# Altium schematic symbol library Macro Pad Library.SchLib: 25 symbols
Pins are listed as number, name and electrical type; pins without a type are passive.

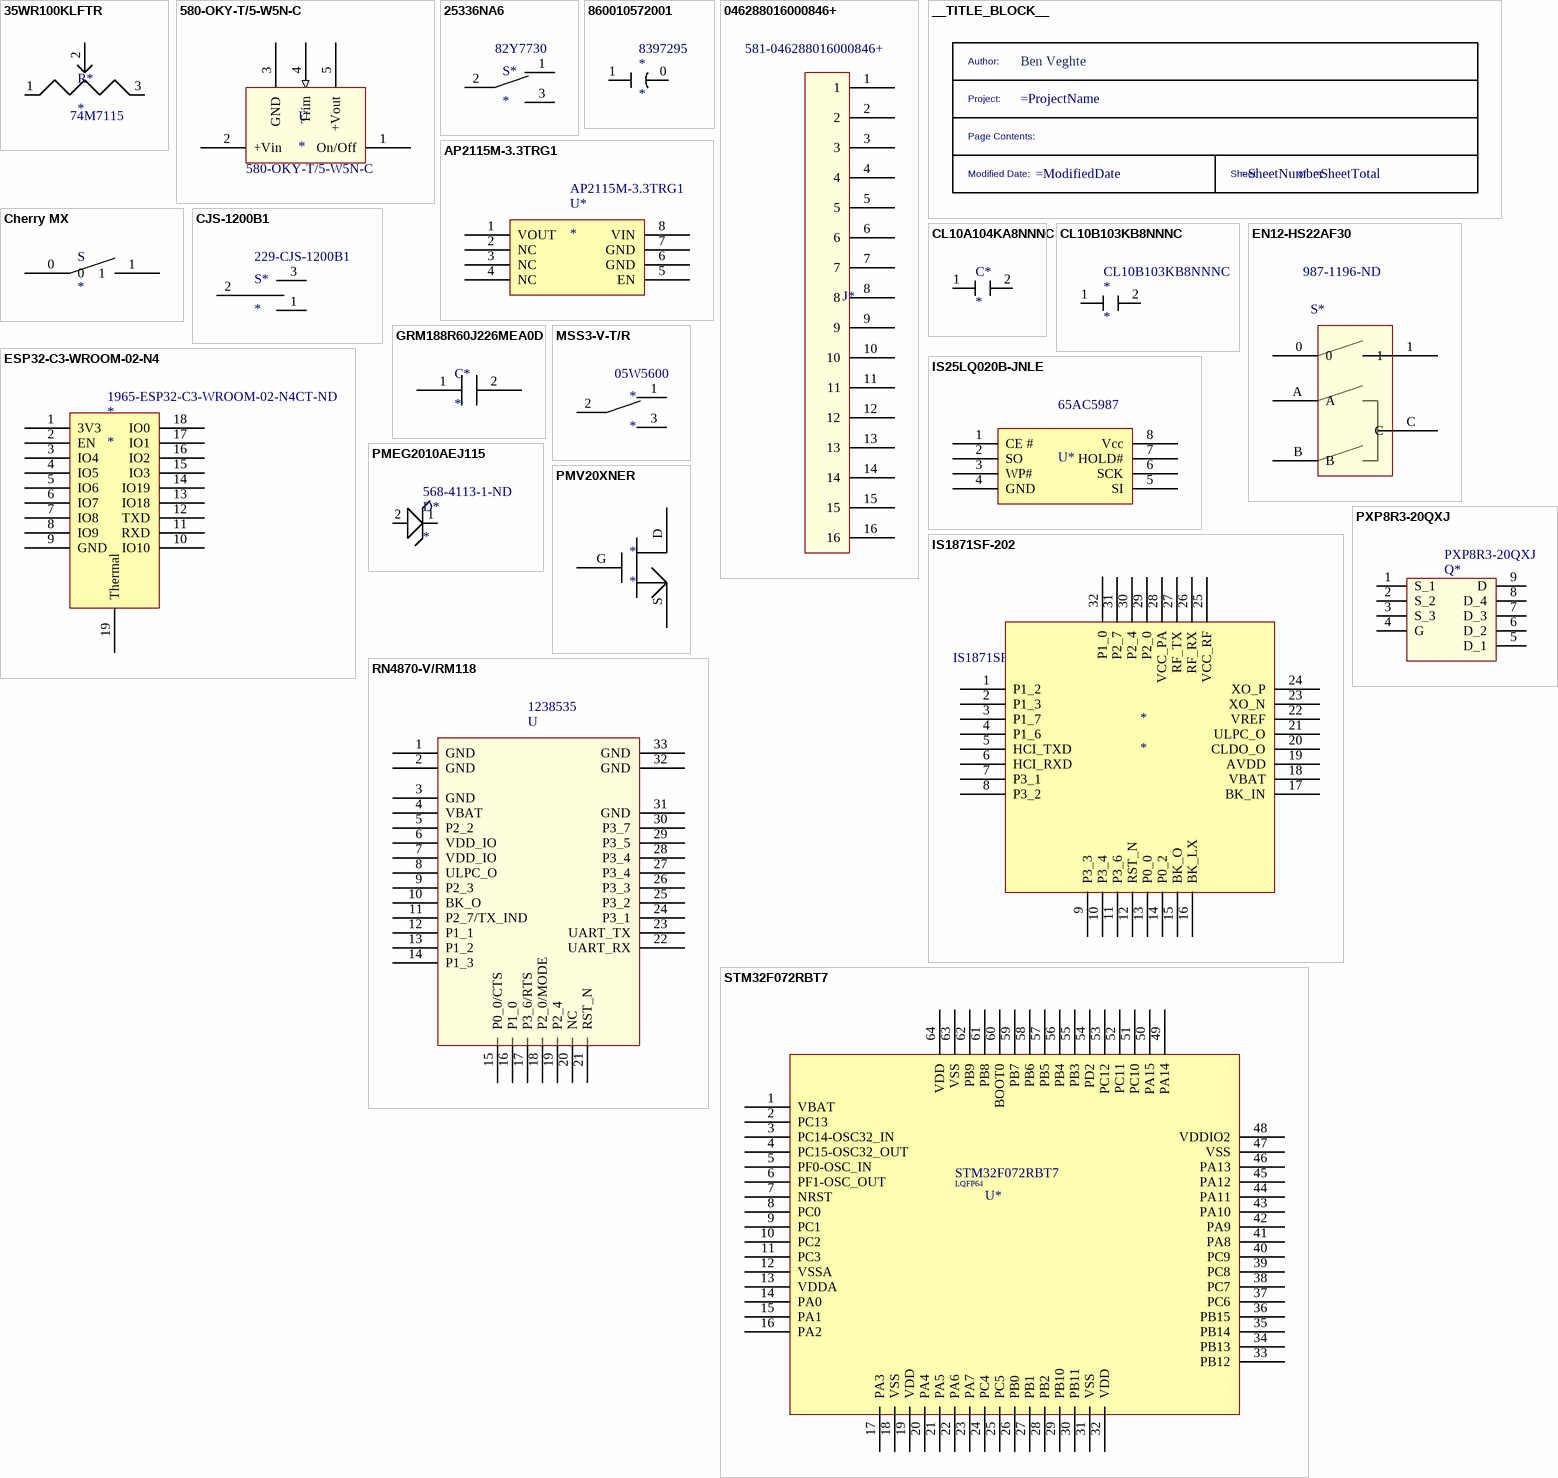
[diagram p0: symbols 35WR100KLFTR to STM32F072RBT7]

## 35WR100KLFTR
designator R*  Supplier Part Number 1: 74M7115
35W Series 3 mm Open Frame 100 kOhm ±25 % Single-Turn Trimming Potentiometer; Manufacturer: TT BI; Manufacturer Part Number: 35WR100KLFTR; Resistance: 100kR; Power Rating: 100mW; Tolerance: 25%; Voltage Rating: 50V; Number of Turns: 1; Insulation Resistance: 100MR; Temperature Coefficient: 250ppm/°C; Supplier 1: Newark; RoHS: Yes; Category: Variable Resistors and Potentiometers; Stock 1: 19940; Pricing 1: 1=0.35800, 10=0.34100, 25=0.32400, 50=0.30100, 100=0.28500, 250=0.27700, 500=0.24900, 1000=0.23800 (USD); Min Operating Temperature: -40°C; Max Operating Temperature: 125°C; Package Quantity: 2000; Packaging: Tape and Reel; Resistor Type: Cermet; Termination: Solder; Voltage Rating (DC): 50V; Type: Potentiometer; Resistance Tolerance: 25%; Series: 37; Width: 1.55mm; REACH SVHC: No SVHC; Lead Free: Lead Free; RoHS Compliant: Yes; ComponentLink1URL: https://datasheet.ciiva.com/22715/4701-22715101.pdf?src-supplier=Element14; ComponentLink1Description: https://datasheet.ciiva.com/22715/4701-22715101.pdf?src-supplier=Element14; ComponentLink2URL: https://datasheet.ciiva.com/7634/4701-7634922.pdf?src-supplier=Element14; ComponentLink2Description: https://datasheet.ciiva.com/7634/4701-7634922.pdf?src-supplier=Element14
footprint 35WR100KLFTR
pins: 1, 2, 3

## 580-OKY-T/5-W5N-C
designator U  Manufacturer Part Number: 580-OKY-T/5-W5N-C
Non Isolated DC/DC Regulator; Supplier 1: RSComponents
footprint 580-OKY-T/5-W5N-C
pins: 1 On/Off, 2 +Vin, 3 GND, 4 Trim (in), 5 +Vout

## 25336NA6
designator S*  Supplier Part Number 1: 82Y7730
Switch Slide ON ON SPDT Side Slide 1A 30VDC 20000Cycles PC Pins Thru-Hole; Manufacturer: APEM; Manufacturer Part Number: 25336NA6; Actuator Material: Nylon,Glass,Polyamide; Contact Current Rating: 4A; Voltage Rating (AC): 125V; Max Voltage Rating (AC): 250V; Voltage Rating (DC): 30V; Illumination Type: Non-Illuminated; Electrical Life: 10000Cycles; Switch Travel: 4mm; Switch Function: On-On; Actuator Type: Standard; Actuator Length: 6mm; Supplier 1: Newark; RoHS: Yes; Category: Slide Switches; Stock 1: 209; Pricing 1: 1=4.37000, 10=3.91000, 25=3.70000, 50=3.57000, 100=3.38000, 250=3.13000 (USD); Mount: Through Hole; Contact Plating: Silver; Contact Material: Silver; Mechanical Life: 20000Cycles; Min Operating Temperature: -40°C; Max Operating Temperature: 85°C; Package Quantity: 100; Throw Configuration: SPDT; Max Current Rating: 1A; Packaging: Bulk; Current Rating: 1A; Max Voltage Rating (DC): 30V; Termination: PC Pins; Orientation: Right Angle; Length: 14.1mm; Depth: 13.5mm; REACH SVHC: No SVHC; RoHS Compliant: Yes; ComponentLink1URL: https://datasheet.ciiva.com/22638/1686052-22638216.pdf?src-supplier=Element14; ComponentLink1Description: https://datasheet.ciiva.com/22638/1686052-22638216.pdf?src-supplier=Element14
footprint 25336NA6
pins: 1, 2 1, 3

## 860010572001
designator *  Supplier Part Number 1: 8397295
Aluminium Electrolytic Capacitor, Wcap-Atg8 Series, 4.7 F, 20%, 35 V, 5 Mm, Radial Leaded Rohs Compliant: Yes; Manufacturer: Wurth Electronics; Manufacturer Part Number: 860010572001; Voltage Rating: 35V; Polarity: Polar; Ripple Current: 44mA; Life (Hours): 2000Hour; Capacitance: 4.7uF; Supplier 1: RSComponents; RoHS: Yes; Category: Aluminum Electrolytic Capacitors; Stock 1: 1; Pricing 1: 50=0.09100, 250=0.06400, 500=0.05100, 1000=0.04900 (USD); Mount: Through Hole; Case/Package: Radial; Min Operating Temperature: -40°C; Max Operating Temperature: 85°C; Package Quantity: 2000; Packaging: Tape and Reel; Tolerance: 20%; Voltage Rating (DC): 35V; Diameter: 5mm; Height: 11mm; Lead Pitch: 0.079inch; Height - Seated (Max): 0.492inch; REACH SVHC: Unknown; RoHS Compliant: Yes; ComponentLink1URL: http://www.farnell.com/datasheets/1879541.pdf?src-supplier=Farnell; ComponentLink1Description: http://www.farnell.com/datasheets/1879541.pdf?src-supplier=Farnell; ComponentLink2URL: http://www.farnell.com/datasheets/1879541.pdf?src-supplier=Element14; ComponentLink2Description: http://www.farnell.com/datasheets/1879541.pdf?src-supplier=Element14; ComponentLink3URL: https://katalog.we-online.de/pbs/datasheet/860010572001.pdf?src-supplier=Digi-Key; ComponentLink3Description: https://katalog.we-online.de/pbs/datasheet/860010572001.pdf?src-supplier=Digi-Key; ComponentLink4URL: http://katalog.we-online.de/pbs/datasheet/860010572001.pdf?src-supplier=Digi-Key; ComponentLink4Description: http://katalog.we-online.de/pbs/datasheet/860010572001.pdf?src-supplier=Digi-Key
footprint 860010572001
pins: 0, 1

## 046288016000846+
designator J*  Supplier Part Number 1: 581-046288016000846+  (hidden comment: *)
Conn FFC/FPC Connector SKT 16 POS 0.5mm Solder RA SMD Automotive T/R; Manufacturer: Kyocera AVX; Manufacturer Part Number: 046288016000846+; Current Rating: 400mA; Voltage Rating: 50V; Number of Positions: 16; Contact Location: Bottom; Gender: Male; Supplier 1: Mouser; RoHS: Yes; Category: FFC / FPC; Stock 1: 2627; Pricing 1: 1=1.38000, 10=1.22000, 50=1.22000, 100=1.05000, 200=0.95100, 500=0.85600, 1000=0.76100, 2000=0.62700, 4000=0.61800, 10000=0.61800 (USD); Mount: Surface Mount; Contact Material: Copper Alloy; Contact Plating: Gold; Housing Material: Plastic; Min Operating Temperature: -40°C; Max Operating Temperature: 105°C; Packaging: Tape and Reel; Number of Rows: 1; Termination: Solder; Orientation: Right Angle; Package Quantity: 1; Number of Contacts: 16; Series: 6288; Pitch: 0.5mm; Radiation Hardening: No; Lead Free: Lead Free; ComponentLink1URL: https://datasheet.ciiva.com/10366/6288-10366323.pdf?src-supplier=Avnet; ComponentLink1Description: https://datasheet.ciiva.com/10366/6288-10366323.pdf?src-supplier=Avnet; ComponentLink2URL: https://datasheet.ciiva.com/18454/70107521-18454565.pdf?src-supplier=Allied+Electronics; ComponentLink2Description: https://datasheet.ciiva.com/18454/70107521-18454565.pdf?src-supplier=Allied+Electronics; ComponentLink3URL: https://datasheet.ciiva.com/671/6288-671255.pdf?src-supplier=Digi-Key; ComponentLink3Description: https://datasheet.ciiva.com/671/6288-671255.pdf?src-supplier=Digi-Key; ComponentLink4URL: https://datasheet.ciiva.com/16327/6288-16327495.pdf?src-supplier=Future+Electronics; ComponentLink4Description: https://datasheet.ciiva.com/16327/6288-16327495.pdf?src-supplier=Future+Electronics; ComponentLink5URL: https://datasheet.ciiva.com/671/6288-671256.pdf?src-supplier=Digi-Key; ComponentLink5Description: https://datasheet.ciiva.com/671/6288-671256.pdf?src-supplier=Digi-Key; ComponentLink6URL: https://datasheet.ciiva.com/671/6288-671257.pdf?src-supplier=Digi-Key; ComponentLink6Description: https://datasheet.ciiva.com/671/6288-671257.pdf?src-supplier=Digi-Key
footprint 046288016000846+
pins: 1, 2, 3, 4, 5, 6, 7, 8, 9, 10, 11, 12, 13, 14, 15, 16

## __TITLE_BLOCK__
designator *  (value not drawn)  (graphical)
text: Author:; Ben Veghte; Project:; Page Contents:; Modified Date:; Sheet; of

## AP2115M-3.3TRG1
designator U*  Supplier Part Number 1: AP2115M-3.3TRG1
LDO Regulator Pos 3.3V 1A 8-Pin SOIC T/R; Manufacturer: Diodes; Dropout Voltage: 450mV; Number of Regulators: 1; Supplier 1: Arrow Electronics; Manufacturer Part Number: AP2115M-3.3TRG1; RoHS: Yes; Category: Voltage Regulators - Linear; Stock 1: 3960; Pricing 1: 1=0.39860, 10=0.32620, 25=0.30340, 100=0.20830, 250=0.19280, 500=0.15840, 1000=0.11820, 3000=0.11710 (USD); Mount: Surface Mount; Case/Package: SOIC; Min Operating Temperature: -40°C; Max Operating Temperature: 85°C; Packaging: Tape and Reel; Output Voltage: 3.3V; Output Current: 1A; RoHS Compliant: Yes; ComponentLink1URL: http://www.mouser.com/ds/2/115/AP2115-464923.pdf?src-supplier=Mouser; ComponentLink1Description: http://www.mouser.com/ds/2/115/AP2115-464923.pdf?src-supplier=Mouser; ComponentLink2URL: https://www.diodes.com/assets/Datasheets/AP2115.pdf?src-supplier=Digi-Key; ComponentLink2Description: https://www.diodes.com/assets/Datasheets/AP2115.pdf?src-supplier=Digi-Key
footprint AP2115M-3.3TRG1
pins: 1 VOUT, 2 NC, 3 NC, 4 NC, 5 EN, 6 GND, 7 GND, 8 VIN

## Cherry MX
designator S
Cherry MX Brown With Fixation Pins
footprint Cherry MX
pins: 0, 1

## CJS-1200B1
designator S*  Supplier Part Number 2: 229-CJS-1200B1
Switch Slide N.O./N.C. SPDT Raised Slide 0.1A 24VDC Gull Wing SMD Bulk; Manufacturer: CUI; Manufacturer Part Number: DS01-254-L-01BE; Max Voltage Rating (DC): 24V; Supplier 1: Mouser; RoHS: Yes; Supplier 2: Mouser; Category: DIP Switches; Stock 2: 600; Pricing 2: 1=0.73000, 10=0.64700, 20=0.63300, 50=0.63300, 100=0.63200, 200=0.56100, 500=0.53500, 1000=0.51700, 2000=0.49800, 10000=0.49800 (USD); Mount: Surface Mount; Case/Package: SMD/SMT; Contact Plating: Gold; Contact Material: Copper Alloy; Min Operating Temperature: -40°C; Max Operating Temperature: 85°C; Throw Configuration: SPDT; Packaging: Bulk; Termination: Gull Wing; Radiation Hardening: No; Lead Free: Lead Free; RoHS Compliant: Yes; ComponentLink1URL: https://www.nidec-copal-electronics.com/e/catalog/switch/cjs.pdf?src-supplier=Digi-Key; ComponentLink1Description: https://www.nidec-copal-electronics.com/e/catalog/switch/cjs.pdf?src-supplier=Digi-Key; ComponentLink2URL: http://www.nidec-copal-electronics.com/e/product/files/file/b1d651d581b7f6382a1a6c96f0c036e447720c59.pdf?src-supplier=Avnet; ComponentLink2Description: http://www.nidec-copal-electronics.com/e/product/files/file/b1d651d581b7f6382a1a6c96f0c036e447720c59.pdf?src-supplier=Avnet
footprint CJS-1200B1
pins: 1, 2, 3

## CL10A104KA8NNNC
designator C*
Cap Ceramic 0.1uF 25V X5R 10% Pad SMD 0603 85°C T/R; Manufacturer: Samsung; Manufacturer Part Number: CL10A104KA8NNNC; Capacitance: 100nF; Supplier 1: Avnet; RoHS: Yes; Category: Ceramic Capacitors; Pricing 1: 40000=0.00344 (USD); Mount: Surface Mount; Case/Package: 0603; Case Code (Metric): 1608; Case Code (Imperial): 0603; Contact Plating: Tin; Min Operating Temperature: -55°C; Max Operating Temperature: 85°C; Package Quantity: 1; Packaging: Tape and Reel; Tolerance: 10%; Voltage Rating: 25V; Series: CL; Dielectric: X5R; Voltage Rating (DC): 25V; Termination: Wraparound; Construction: Flat; Length: 0.063inch; Width: 0.031inch; Thickness: 0.035inch; RoHS Compliant: Yes; Lead Free: Lead Free; ComponentLink1URL: https://datasheet.ciiva.com/25780/cl10a104ka8nnnc-25780966.pdf?src-supplier=Digi-Key; ComponentLink1Description: https://datasheet.ciiva.com/25780/cl10a104ka8nnnc-25780966.pdf?src-supplier=Digi-Key
footprint CL10A104KA8NNNC
pins: 1, 2

## CL10B103KB8NNNC
designator *  Supplier Part Number 1: CL10B103KB8NNNC
CAP CER 10000PF 50V X7R 0603; Manufacturer: Samsung; Capacitance: 10nF; Tolerance: 10%; Supplier 1: Arrow Electronics; Manufacturer Part Number: CL10B103KB8NNNC; RoHS: Yes; Category: Ceramic Capacitors; Stock 1: 4784000; Pricing 1: 4000=0.00480, 8000=0.00470, 12000=0.00440, 40000=0.00350 (USD); Mount: Surface Mount; Case/Package: 0603; Case Code (Metric): 1608; Case Code (Imperial): 0603; Material: Ceramic; Contact Plating: Tin; Min Operating Temperature: -55°C; Max Operating Temperature: 125°C; Dielectric: X7R; Voltage Rating: 50V; Package Quantity: 1; Packaging: Tape and Reel; Voltage: 50V; Voltage Rating (DC): 50V; Series: CL; Construction: Flat; Length: 1.6mm; Width: 0.031inch; Height: 0.8mm; Depth: 0.8mm; Thickness: 0.035inch; Radiation Hardening: No; Lead Free: Lead Free; RoHS Compliant: Yes; ComponentLink1URL: https://datasheet.ciiva.com/15195/getdatasheetpartid-357415-15195721.pdf?src-supplier=Verical; ComponentLink1Description: https://datasheet.ciiva.com/15195/getdatasheetpartid-357415-15195721.pdf?src-supplier=Verical; ComponentLink2URL: https://datasheet.ciiva.com/29198/457455-da-01-en-vs-kondensator-0603-29198644.pdf?src-supplier=Conrad; ComponentLink2Description: https://datasheet.ciiva.com/29198/457455-da-01-en-vs-kondensator-0603-29198644.pdf?src-supplier=Conrad
footprint CL10B103KB8NNNC
pins: 1, 2

## EN12-HS22AF30
designator S*  Supplier Part Number 1: 987-1196-ND  (hidden comment: *)
Rotary Encoder; Supplier 1: Digi-Key
footprint EN12-HS22AF30 (Rotary Encoder)
pins: 0, 1, A, B, C

## ESP32-C3-WROOM-02-N4
designator *  Supplier Part Number 1: 1965-ESP32-C3-WROOM-02-N4CT-ND
Manufacturer: Espressif Systems; Manufacturer Part Number: ESP32-C3-WROOM-02-N4; Supplier 1: Digi-Key; RoHS: No; Stock 1: 225; Pricing 1: 1=1.95000 (USD)
footprint ESP32-C3-WROOM-02-N4
pins: 1 3V3, 2 EN, 3 IO4, 4 IO5, 5 IO6, 6 IO7, 7 IO8, 8 IO9, 9 GND, 10 IO10, 11 RXD, 12 TXD, 13 IO18, 14 IO19, 15 IO3, 16 IO2, 17 IO1, 18 IO0, 19 Thermal

## GRM188R60J226MEA0D
designator C*
0603 22 uF 6.3 V ±20% Tolerance X5R SMT Multilayer Ceramic Capacitor; Manufacturer: Murata; Manufacturer Part Number: GRM188R60J226MEA0D; Capacitance: 22uF; Voltage Rating: 6.3V; Supplier 1: Arrow Electronics; RoHS: Yes; Category: Ceramic Capacitors; Stock 1: 280000; Pricing 1: 4000=0.05660, 8000=0.05370 (USD); Mount: Surface Mount; Case/Package: 0603; Case Code (Metric): 1608; Case Code (Imperial): 0603; Weight: 0.000222oz; Min Operating Temperature: -55°C; Max Operating Temperature: 85°C; Tolerance: 20%; Packaging: Tape and Reel; Package Quantity: 4000; Dielectric: X5R; Termination: SMD/SMT; Voltage Rating (DC): 6.3V; Length: 1.6mm; Width: 0.8mm; Height: 0.8mm; Thickness: 0.039inch; Depth: 0.8mm; REACH SVHC: No SVHC; Lead Free: Lead Free; RoHS Compliant: Yes; ComponentLink1URL: https://datasheet.ciiva.com/29540/partnumbering-e-01-29540442.pdf?src-supplier=Digi-Key; ComponentLink1Description: https://datasheet.ciiva.com/29540/partnumbering-e-01-29540442.pdf?src-supplier=Digi-Key; ComponentLink2URL: https://datasheet.ciiva.com/29540/partnumbering-e-01-29540441.pdf?src-supplier=Digi-Key; ComponentLink2Description: https://datasheet.ciiva.com/29540/partnumbering-e-01-29540441.pdf?src-supplier=Digi-Key; ComponentLink3URL: https://datasheet.ciiva.com/29540/partnumbering-e-01-29540443.pdf?src-supplier=Digi-Key; ComponentLink3Description: https://datasheet.ciiva.com/29540/partnumbering-e-01-29540443.pdf?src-supplier=Digi-Key
footprint GRM188R60J226MEA0D
pins: 1 B, 2 B

## IS25LQ020B-JNLE
designator U*  Supplier Part Number 1: 65AC5987  (hidden comment: *)
NOR Flash Serial (SPI, Dual SPI, Quad SPI) 2.5V/3V/3.3V 2M-bit 256K x 8 8ns 8-Pin SOIC N; Manufacturer: ISSI; Manufacturer Part Number: IS25LQ020B-JNLE; Memory Type: FLASH,NOR; Frequency: 104MHz; Interface: SPI,Serial; Density: 2Mb; Operating Supply Voltage: 3.3V; Address Bus Width: 24b; Page Size: 256B; Min Supply Voltage: 2.3V; Max Supply Voltage: 3.6V; Supplier 1: Newark; RoHS: Yes; Category: Memory; Stock 1: 799; Pricing 1: 1=0.45200, 10=0.41800, 100=0.37600, 500=0.35200 (USD); Mount: Surface Mount; Case/Package: SOIC; Number of Pins: 8; Min Operating Temperature: -40°C; Max Operating Temperature: 105°C; Packaging: Bulk; Access Time: 8ns; RoHS Compliant: Yes; ComponentLink1URL: http://www.mouser.com/ds/2/198/25LQ025B-512B-010B-020B-040B-706473.pdf?src-supplier=Mouser; ComponentLink1Description: http://www.mouser.com/ds/2/198/25LQ025B-512B-010B-020B-040B-706473.pdf?src-supplier=Mouser; ComponentLink2URL: http://www.issi.com/WW/pdf/25LQ025B-512B-010B-020B-040B.pdf?src-supplier=Avnet; ComponentLink2Description: http://www.issi.com/WW/pdf/25LQ025B-512B-010B-020B-040B.pdf?src-supplier=Avnet; ComponentLink3URL: http://www.issi.com/WW/pdf/25LQ025B-512B-010B-020B-040B.pdf?src-supplier=Digi-Key; ComponentLink3Description: http://www.issi.com/WW/pdf/25LQ025B-512B-010B-020B-040B.pdf?src-supplier=Digi-Key; ComponentLink4URL: http://www.farnell.com/datasheets/2625712.pdf?src-supplier=Newark; ComponentLink4Description: http://www.farnell.com/datasheets/2625712.pdf?src-supplier=Newark
footprint IS25LQ020B-JNLE
pins: 1 CE #, 2 SO, 3 WP#, 4 GND, 5 SI, 6 SCK, 7 HOLD#, 8 Vcc

## IS1871SF-202
designator *  Supplier Part Number 1: IS1871SF-202
Bluetooth BLE5 IC, 4X4MM, Industrial Temp 32 VQFN 4X4X0.9MM T/r Rohs Compliant: Yes; Manufacturer: Microchip; Supplier 1: Arrow Electronics; Manufacturer Part Number: IS1871SF-202; RoHS: Yes; Category: RF Receivers, Transceivers; Stock 1: 5000; Pricing 1: 1=2.02400, 10=2.00400, 25=1.87900, 100=1.86700, 250=1.85600, 500=1.84400, 1000=1.83200, 3000=1.82100 (USD); RoHS Compliant: No
pins: 1 P1_2, 2 P1_3, 3 P1_7, 4 P1_6, 5 HCI_TXD, 6 HCI_RXD, 7 P3_1, 8 P3_2, 9 P3_3, 10 P3_4, 11 P3_6, 12 RST_N, 13 P0_0, 14 P0_2, 15 BK_O, 16 BK_LX, 17 BK_IN, 18 VBAT, 19 AVDD, 20 CLDO_O, 21 ULPC_O, 22 VREF, 23 XO_N, 24 XO_P, 25 VCC_RF, 26 RF_RX, 27 RF_TX, 28 VCC_PA, 29 P2_0, 30 P2_4, 31 P2_7, 32 P1_0

## MSS3-V-T/R
designator *  Supplier Part Number 1: 05W5600
Switch Slide SP3T Side Slide 0.025A 24VDC 10000Cycles Solder SMD T/R; Manufacturer: Multicomp; Manufacturer Part Number: MSS3-V-T/R; Operating Force: 150gf; Contact Resistance: 100mR; Throw Configuration: SPDT; Supplier 1: Newark; RoHS: Yes; Category: Uncategorized; Pricing 1: 1=0.74200, 25=0.64500, 50=0.57100, 100=0.53000 (USD); Case/Package: 300; Min Operating Temperature: -20°C; Max Operating Temperature: 70°C; Orientation: Right Angle; REACH SVHC: No SVHC; ComponentLink1URL: https://datasheet.ciiva.com/1699/1599440-1699654.pdf?src-supplier=Newark; ComponentLink1Description: https://datasheet.ciiva.com/1699/1599440-1699654.pdf?src-supplier=Newark; ComponentLink2URL: https://datasheet.ciiva.com/1532/1599440-1532300.pdf?src-supplier=Element14; ComponentLink2Description: https://datasheet.ciiva.com/1532/1599440-1532300.pdf?src-supplier=Element14
footprint MSS3-V-T/R
pins: 1, 2 1, 3

## PMEG2010AEJ115
designator D*  Supplier Part Number 1: 568-4113-1-ND
NXP         PMEG2010AEJ,115             Schottky Rectifier, Single, 20 V, 1 A, SOD-323F, 2 Pins, 550 mV; Manufacturer: NXP Semiconductors; Manufacturer Part Number: PMEG2010AEJ115; Max Surge Current: 10A; Forward Current: 1A; Max Reverse Current: 70uA; Forward Voltage: 550mV; Max Repetitive Reverse Voltage (Vrrm): 20V; Supplier 1: Digi-Key; RoHS: Yes; Category: Schottky Diodes; Mount: Surface Mount; Number of Pins: 2; Weight: 0.01lb; Min Operating Temperature: -65°C; Max Operating Temperature: 150°C; Package Quantity: 1; Packaging: Tape and Reel; Max Reverse Leakage Current: 70uA; Average Rectified Current: 1A; Peak Non-Repetitive Surge Current: 10A; Max Forward Surge Current (Ifsm): 10A; Termination: SMD/SMT; Element Configuration: Single; Max Reverse Voltage (DC): 20V; Length: 0.25inch; Width: 0.25inch; Height: 0.25inch; Radiation Hardening: No; REACH SVHC: No SVHC; Lead Free: Lead Free; ComponentLink1URL: https://datasheet.ciiva.com/28648/666247-28648370.pdf?src-supplier=Element14; ComponentLink1Description: https://datasheet.ciiva.com/28648/666247-28648370.pdf?src-supplier=Element14; ComponentLink2URL: https://datasheet.ciiva.com/913/pmeg2010aej-913523.pdf?src-supplier=Digi-Key; ComponentLink2Description: https://datasheet.ciiva.com/913/pmeg2010aej-913523.pdf?src-supplier=Digi-Key; ComponentLink3URL: https://datasheet.ciiva.com/4714/pmeg2010aej-117858-4714480.pdf?src-supplier=Mouser; ComponentLink3Description: https://datasheet.ciiva.com/4714/pmeg2010aej-117858-4714480.pdf?src-supplier=Mouser; ComponentLink4URL: https://datasheet.ciiva.com/7965/666247-7965049.pdf?src-supplier=Element14; ComponentLink4Description: https://datasheet.ciiva.com/7965/666247-7965049.pdf?src-supplier=Element14; ComponentLink5URL: https://datasheet.ciiva.com/31423/666247-31423031.pdf?src-supplier=Farnell; ComponentLink5Description: https://datasheet.ciiva.com/31423/666247-31423031.pdf?src-supplier=Farnell; ComponentLink6URL: https://datasheet.ciiva.com/913/pmeg2010aej-913524.pdf?src-supplier=Digi-Key; ComponentLink6Description: https://datasheet.ciiva.com/913/pmeg2010aej-913524.pdf?src-supplier=Digi-Key; ComponentLink7URL: https://datasheet.ciiva.com/913/pmeg2010aej-913525.pdf?src-supplier=Digi-Key; ComponentLink7Description: https://datasheet.ciiva.com/913/pmeg2010aej-913525.pdf?src-supplier=Digi-Key
footprint PMEG2010AEJ
pins: 1 34, 2 35

## PMV20XNER
designator *
footprint PMV20XNER
pins: D, G B, S

## PXP8R3-20QXJ
designator Q*  Supplier Part Number 1: PXP8R3-20QXJ  (hidden comment: *)
PXP8R3-20QX - 20 V, P-channel Trench MOSFET; Manufacturer: Nexperia; Supplier 1: Arrow Electronics; Manufacturer Part Number: PXP8R3-20QXJ; RoHS: No; Category: Uncategorized; Stock 1: 1756; Pricing 1: 1=0.70830, 10=0.62250, 25=0.61630, 50=0.61020, 100=0.46530, 250=0.46060, 500=0.34520, 1000=0.29630 (USD)
footprint PXP8R3-20QXJ
pins: 1 S_1, 2 S_2, 3 S_3, 4 G, 5 D_1, 6 D_2, 7 D_3, 8 D_4, 9 D

## RN4870-V/RM118
designator U  Supplier Part Number 1: 1238535  (hidden comment: *)
RN4870 Series 3.3 V 2.48 GHz Class 2 Bluetooth® 4.2 Shielded Low Energy Module; Manufacturer: Microchip; Manufacturer Part Number: RN4870-V/RM118; Min Supply Voltage: 1.9V; Max Supply Voltage: 3.6V; Supplier 1: RSComponents; RoHS: No; Category: RF Receivers, Transceivers; Stock 1: 78; Pricing 1: 1=6.86000, 25=6.65000, 100=6.41000 (GBP); Case/Package: Module; Min Operating Temperature: -20°C; Max Operating Temperature: 70°C; REACH SVHC: No SVHC; Lead Free: Lead Free; RoHS Compliant: No; ComponentLink1URL: http://www.farnell.com/datasheets/2151205.pdf?src-supplier=Farnell; ComponentLink1Description: http://www.farnell.com/datasheets/2151205.pdf?src-supplier=Farnell; ComponentLink2URL: http://www.farnell.com/datasheets/2151205.pdf?src-supplier=Element14; ComponentLink2Description: http://www.farnell.com/datasheets/2151205.pdf?src-supplier=Element14; ComponentLink3URL: http://www.microchip.com/mymicrochip/filehandler.aspx?ddocname=en586027&src-supplier=Digi-Key; ComponentLink3Description: http://www.microchip.com/mymicrochip/filehandler.aspx?ddocname=en586027&src-supplier=Digi-Key
footprint RN4870-V
pins: 1 GND, 2 GND, 3 GND, 4 VBAT, 5 P2_2, 6 VDD_IO, 7 VDD_IO, 8 ULPC_O, 9 P2_3, 10 BK_O, 11 P2_7/TX_IND, 12 P1_1, 13 P1_2, 14 P1_3, 15 P0_0/CTS, 16 P1_0, 17 P3_6/RTS, 18 P2_0/MODE, 19 P2_4, 20 NC, 21 RST_N, 22 UART_RX, 23 UART_TX, 24 P3_1, 25 P3_2, 26 P3_3, 27 P3_4, 28 P3_4, 29 P3_5, 30 P3_7, 31 GND, 32 GND, 33 GND

## STM32F072RBT7
designator U*  (value not drawn)
MCU 32-Bit ARM Cortex-M0 RISC 64KB Flash 2V to 3.6V 64-Pin LQFP Tray; Manufacturer: STMicroelectronics; Manufacturer Part Number: STM32F072RBT7; Interface: I2C,SPI,USB,HDMI,IrDA,UART,USART; Peripherals: POR,PWM,WDT,DMA; Frequency: 48MHz; Number of I/Os: 51; Memory Size: 128KB; Oscillator Type: Internal; Supplier 1: Newark; RoHS: Yes; Category: Microcontrollers; Stock 1: 885; Pricing 1: 1=7.63000, 10=6.86000, 25=6.49000, 50=6.05000, 100=5.62000, 250=5.10000, 500=4.79000 (USD); Case/Package: LQFP; Min Operating Temperature: -40°C; Max Operating Temperature: 105°C; Memory Type: FLASH; Packaging: Tray; Core Architecture: ARM; ComponentLink1URL: http://www.st.com/content/ccc/resource/technical/document/datasheet/cd/46/43/83/22/d3/40/c8/DM00090510.pdf/files/DM00090510.pdf/jcr:content/translations/en.DM00090510.pdf?src-supplier=Digi-Key; ComponentLink1Description: http://www.st.com/content/ccc/resource/technical/document/datasheet/cd/46/43/83/22/d3/40/c8/DM00090510.pdf/files/DM00090510.pdf/jcr:content/translations/en.DM00090510.pdf?src-supplier=Digi-Key
footprint STM32F072RBT6
pins: 1 VBAT, 2 PC13, 3 PC14-OSC32_IN, 4 PC15-OSC32_OUT, 5 PF0-OSC_IN, 6 PF1-OSC_OUT, 7 NRST, 8 PC0, 9 PC1, 10 PC2, 11 PC3, 12 VSSA, 13 VDDA, 14 PA0, 15 PA1, 16 PA2, 17 PA3, 18 VSS, 19 VDD, 20 PA4, 21 PA5, 22 PA6, 23 PA7, 24 PC4, 25 PC5, 26 PB0, 27 PB1, 28 PB2, 29 PB10, 30 PB11, 31 VSS, 32 VDD, 33 PB12, 34 PB13, 35 PB14, 36 PB15, 37 PC6, 38 PC7, 39 PC8, 40 PC9, 41 PA8, 42 PA9, 43 PA10, 44 PA11, 45 PA12, 46 PA13, 47 VSS, 48 VDDIO2, 49 PA14, 50 PA15, 51 PC10, 52 PC11, 53 PC12, 54 PD2, 55 PB3, 56 PB4, 57 PB5, 58 PB6, 59 PB7, 60 BOOT0, 61 PB8, 62 PB9, 63 VSS, 64 VDD
text: LQFP64

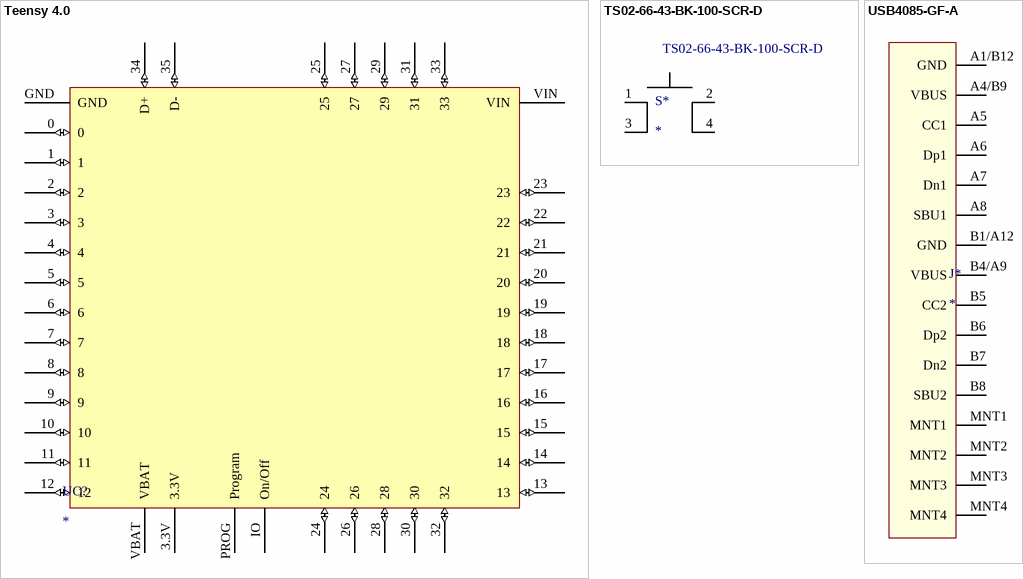
[diagram p1: symbols Teensy 4.0 to USB4085-GF-A]

## Teensy 4.0
designator UC?
Teensy 4.0 dev board
footprint Teensy 4.0
footprint Teensy 4.0
pins: 0 (io), 1 (io), 2 (io), 3 (io), 3.3V (power), 4 (io), 5 (io), 6 (io), 7 (io), 8 (io), 9 (io), 10 (io), 11 (io), 12 (io), 13 (io), 14 (io), 15 (io), 16 (io), 17 (io), 18 (io), 19 (io), 20 (io), 21 (io), 22 (io), 23 (io), 24 (io), 25 (io), 26 (io), 27 (io), 28 (io), 29 (io), 30 (io), 31 (io), 32 (io), 33 (io), 34 D+ (io), 35 D- (io), GND, IO On/Off, PROG Program, VBAT, VIN

## TS02-66-43-BK-100-SCR-D
designator S*  Supplier Part Number 1: TS02-66-43-BK-100-SCR-D
Switch Tactile OFF (ON) SPST Round Button PC Pins 0.05A 12VDC 100000Cycles 1N Thru-Hole Bag; Manufacturer: CUI Devices; Supplier 1: Arrow Electronics; Manufacturer Part Number: TS02-66-43-BK-100-SCR-D; RoHS: No; Stock 1: 6000; Pricing 1: 1=0.09100, 25=0.08560, 100=0.07670, 250=0.07150, 500=0.06460, 1000=0.05270, 2000=0.05130, 5000=0.04740 (USD)
footprint TS02-66-43-BK-100-SCR-D
pins: 1, 2, 3, 4

## USB4085-GF-A
designator J*
Conn USB 2.0 Type C RCP 16 POS 0.85mm Solder RA Thru-Hole 16 Terminal 1 Port T/R; Manufacturer: Global Connector Technology; Manufacturer Part Number: USB4085-GF-A; USB Standard: USB 2.0; Gender: Receptacle; Number of Positions: 16; Supplier 1: Newark; RoHS: Yes; Category: USB Connectors; Stock 1: 3052; Pricing 1: 1=0.95500, 10=0.85100, 25=0.79600, 50=0.73300, 100=0.63100, 250=0.57900, 500=0.53500 (USD); Contact Material: Copper Alloy; Contact Plating: Gold; Orientation: Right Angle; ComponentLink1URL: https://datasheet.ciiva.com/71788/usb4085-71788147.pdf?src-supplier=Digi-Key; ComponentLink1Description: https://datasheet.ciiva.com/71788/usb4085-71788147.pdf?src-supplier=Digi-Key; ComponentLink2URL: https://datasheet.ciiva.com/71788/2674755-71788146.pdf?src-supplier=Element14; ComponentLink2Description: https://datasheet.ciiva.com/71788/2674755-71788146.pdf?src-supplier=Element14
footprint USB4105-GF-A-120
pins: A1/B12 GND, A4/B9 VBUS, A5 CC1, A6 Dp1, A7 Dn1, A8 SBU1, B1/A12 GND, B4/A9 VBUS, B5 CC2, B6 Dp2, B7 Dn2, B8 SBU2, MNT1, MNT2, MNT3, MNT4